# Altium schematic symbol library XT30.SCHLIB: 1 symbol
Pins are listed as number, name and electrical type; pins without a type are passive.

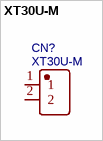
[diagram p0: symbol XT30U-M]

## XT30U-M
designator CN?
BOM_Manufacturer: AMASS(艾迈斯); Contributor: lcsc; BOM_Supplier: LCSC; BOM_Supplier Part: C99101; BOM_Manufacturer Part: XT30U-M; link: https://atta.szlcsc.com/upload/public/pdf/source/20170606/1496716542582.pdf; BOM_JLCPCB Part Class: Extended Part; spicePre: C; spiceSymbolName: XT30U-M
footprint CONN-TH_XT30U-M
pins: 1, 2